# Altium integrated library Wuerth Elektronik THT Power Choke.IntLib: 76 symbols
Pins are listed as number, name and electrical type; pins without a type are passive.

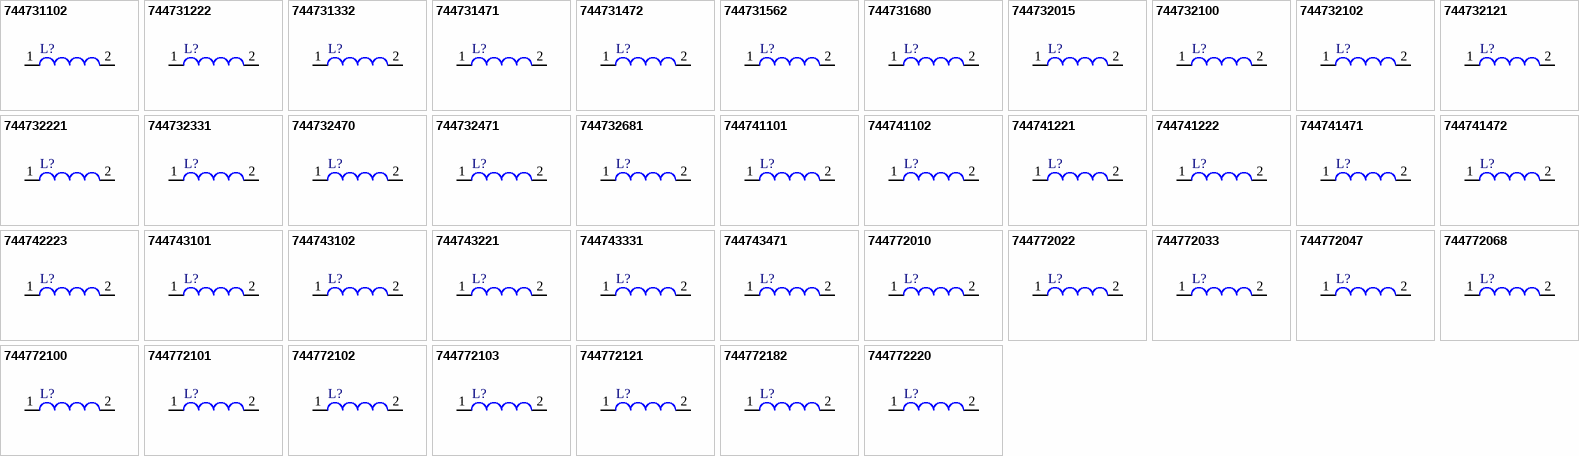
[diagram p0: symbols 744731102 to 744772220]

## 744731102
designator L?
Radial Leaded Wire Wound Inductor WE-TI, L = 1000 µH; Inductance: 1000 µH; DatasheetVersion: ver 3, Apr-2011; PackageVersion: 2008; PackageReference: WE-TI-LM-SHLD; PackageDescription: THT Inductor, 2-Leads, Body 7.8 x 7.8 mm; ComponentLink1Description: Manufacturer URL; ComponentLink1URL: http://www.we-online.com; ComponentLink2Description: Datasheet; ComponentLink2URL: http://www.we-online.de/katalog/media/pdf/744731102.pdf
footprint WE-TI-LM-SHLD (THT Inductor, 2-Leads, Body 7.8x7.8x7.5 mm)
pins: 1, 2

## 744731222
designator L?
Radial Leaded Wire Wound Inductor WE-TI, L = 2200 µH; Inductance: 2200 µH; DatasheetVersion: ver 1, Feb-2008; PackageVersion: 2008; PackageReference: WE-TI-LM-SHLD; PackageDescription: THT Inductor, 2-Leads, Body 7.8 x 7.8 mm; ComponentLink1Description: Manufacturer URL; ComponentLink1URL: http://www.we-online.com; ComponentLink2Description: Datasheet; ComponentLink2URL: http://www.we-online.de/katalog/media/pdf/744731222.pdf
footprint WE-TI-LM-SHLD (THT Inductor, 2-Leads, Body 7.8x7.8x7.5 mm)
pins: 1, 2

## 744731332
designator L?
Radial Leaded Wire Wound Inductor WE-TI, L = 3300 µH; Inductance: 3300 µH; DatasheetVersion: ver 1, Feb-2008; PackageVersion: 2008; PackageReference: WE-TI-LM-SHLD; PackageDescription: THT Inductor, 2-Leads, Body 7.8 x 7.8 mm; ComponentLink1Description: Manufacturer URL; ComponentLink1URL: http://www.we-online.com; ComponentLink2Description: Datasheet; ComponentLink2URL: http://www.we-online.de/katalog/media/pdf/744731332.pdf
footprint WE-TI-LM-SHLD (THT Inductor, 2-Leads, Body 7.8x7.8x7.5 mm)
pins: 1, 2

## 744731471
designator L?
Radial Leaded Wire Wound Inductor WE-TI, L = 470 µH; Inductance: 470 µH; DatasheetVersion: ver 3, Mar-2011; PackageVersion: 2008; PackageReference: WE-TI-LM-SHLD; PackageDescription: THT Inductor, 2-Leads, Body 7.8 x 7.8 mm; ComponentLink1Description: Manufacturer URL; ComponentLink1URL: http://www.we-online.com; ComponentLink2Description: Datasheet; ComponentLink2URL: http://www.we-online.de/katalog/media/pdf/744731471.pdf
footprint WE-TI-LM-SHLD (THT Inductor, 2-Leads, Body 7.8x7.8x7.5 mm)
pins: 1, 2

## 744731472
designator L?
Radial Leaded Wire Wound Inductor WE-TI, L = 4700 µH; Inductance: 4700 µH; DatasheetVersion: ver 3, Apr-2011; PackageVersion: 2008; PackageReference: WE-TI-LM-SHLD; PackageDescription: THT Inductor, 2-Leads, Body 7.8 x 7.8 mm; ComponentLink1Description: Manufacturer URL; ComponentLink1URL: http://www.we-online.com; ComponentLink2Description: Datasheet; ComponentLink2URL: http://www.we-online.de/katalog/media/pdf/744731472.pdf
footprint WE-TI-LM-SHLD (THT Inductor, 2-Leads, Body 7.8x7.8x7.5 mm)
pins: 1, 2

## 744731562
designator L?
Radial Leaded Wire Wound Inductor WE-TI, L = 5600 µH; Inductance: 5600 µH; DatasheetVersion: ver 3, Apr-2011; PackageVersion: 2008; PackageReference: WE-TI-LM-SHLD; PackageDescription: THT Inductor, 2-Leads, Body 7.8 x 7.8 mm; ComponentLink1Description: Manufacturer URL; ComponentLink1URL: http://www.we-online.com; ComponentLink2Description: Datasheet; ComponentLink2URL: http://www.we-online.de/katalog/media/pdf/744731562.pdf
footprint WE-TI-LM-SHLD (THT Inductor, 2-Leads, Body 7.8x7.8x7.5 mm)
pins: 1, 2

## 744731680
designator L?
Radial Leaded Wire Wound Inductor WE-TI, L = 68.0 µH; Inductance: 68.0 µH; DatasheetVersion: ver 3, Mar-2011; PackageVersion: 2008; PackageReference: WE-TI-LM-SHLD; PackageDescription: THT Inductor, 2-Leads, Body 7.8 x 7.8 mm; ComponentLink1Description: Manufacturer URL; ComponentLink1URL: http://www.we-online.com; ComponentLink2Description: Datasheet; ComponentLink2URL: http://www.we-online.de/katalog/media/pdf/744731680.pdf
footprint WE-TI-LM-SHLD (THT Inductor, 2-Leads, Body 7.8x7.8x7.5 mm)
pins: 1, 2

## 744732015
designator L?
Radial Leaded Wire Wound Inductor WE-TI, L = 1.50 µH; Inductance: 1.50 µH; DatasheetVersion: ver 4, Oct-2009; PackageVersion: 2010; PackageReference: WE-TI-LM-STBG; PackageDescription: THT Inductor, 2-Leads, Body 9.5 x 9.5 mm; ComponentLink1Description: Manufacturer URL; ComponentLink1URL: http://www.we-online.com; ComponentLink2Description: Datasheet; ComponentLink2URL: http://www.we-online.de/katalog/media/pdf/744732015.pdf
footprint WE-TI-LM-STBG (THT Inductor, 2-Leads, Body 9.5x9.5x8.0 mm)
pins: 1, 2

## 744732100
designator L?
Radial Leaded Wire Wound Inductor WE-TI, L = 10.0 µH; Inductance: 10.0 µH; DatasheetVersion: ver 4, Oct-2009; PackageVersion: 2010; PackageReference: WE-TI-LM-STBG; PackageDescription: THT Inductor, 2-Leads, Body 9.5 x 9.5 mm; ComponentLink1Description: Manufacturer URL; ComponentLink1URL: http://www.we-online.com; ComponentLink2Description: Datasheet; ComponentLink2URL: http://www.we-online.de/katalog/media/pdf/744732100.pdf
footprint WE-TI-LM-STBG (THT Inductor, 2-Leads, Body 9.5x9.5x8.0 mm)
pins: 1, 2

## 744732102
designator L?
Radial Leaded Wire Wound Inductor WE-TI, L = 1000 µH; Inductance: 1000 µH; DatasheetVersion: ver 1, Mar-2010; PackageVersion: 2010; PackageReference: WE-TI-LM-STBG; PackageDescription: THT Inductor, 2-Leads, Body 9.5 x 9.5 mm; ComponentLink1Description: Manufacturer URL; ComponentLink1URL: http://www.we-online.com; ComponentLink2Description: Datasheet; ComponentLink2URL: http://www.we-online.de/katalog/media/pdf/744732102.pdf
footprint WE-TI-LM-STBG (THT Inductor, 2-Leads, Body 9.5x9.5x8.0 mm)
pins: 1, 2

## 744732121
designator L?
Radial Leaded Wire Wound Inductor WE-TI, L = 120 µH; Inductance: 120 µH; DatasheetVersion: ver 1, Jan-2010; PackageVersion: 2010; PackageReference: WE-TI-LM-STBG; PackageDescription: THT Inductor, 2-Leads, Body 9.5 x 9.5 mm; ComponentLink1Description: Manufacturer URL; ComponentLink1URL: http://www.we-online.com; ComponentLink2Description: Datasheet; ComponentLink2URL: http://www.we-online.de/katalog/media/pdf/744732121.pdf
footprint WE-TI-LM-STBG (THT Inductor, 2-Leads, Body 9.5x9.5x8.0 mm)
pins: 1, 2

## 744732221
designator L?
Radial Leaded Wire Wound Inductor WE-TI, L = 220 µH; Inductance: 220 µH; DatasheetVersion: ver 1, Mar-2010; PackageVersion: 2010; PackageReference: WE-TI-LM-STBG; PackageDescription: THT Inductor, 2-Leads, Body 9.5 x 9.5 mm; ComponentLink1Description: Manufacturer URL; ComponentLink1URL: http://www.we-online.com; ComponentLink2Description: Datasheet; ComponentLink2URL: http://www.we-online.de/katalog/media/pdf/744732221.pdf
footprint WE-TI-LM-STBG (THT Inductor, 2-Leads, Body 9.5x9.5x8.0 mm)
pins: 1, 2

## 744732331
designator L?
Radial Leaded Wire Wound Inductor WE-TI, L = 330 µH; Inductance: 330 µH; DatasheetVersion: ver 3, Nov-2009; PackageVersion: 2010; PackageReference: WE-TI-LM-STBG; PackageDescription: THT Inductor, 2-Leads, Body 9.5 x 9.5 mm; ComponentLink1Description: Manufacturer URL; ComponentLink1URL: http://www.we-online.com; ComponentLink2Description: Datasheet; ComponentLink2URL: http://www.we-online.de/katalog/media/pdf/744732331.pdf
footprint WE-TI-LM-STBG (THT Inductor, 2-Leads, Body 9.5x9.5x8.0 mm)
pins: 1, 2

## 744732470
designator L?
Radial Leaded Wire Wound Inductor WE-TI, L = 47.0 µH; Inductance: 47.0 µH; DatasheetVersion: ver 2, Jan-2010; PackageVersion: 2010; PackageReference: WE-TI-LM-STBG; PackageDescription: THT Inductor, 2-Leads, Body 9.5 x 9.5 mm; ComponentLink1Description: Manufacturer URL; ComponentLink1URL: http://www.we-online.com; ComponentLink2Description: Datasheet; ComponentLink2URL: http://www.we-online.de/katalog/media/pdf/744732470.pdf
footprint WE-TI-LM-STBG (THT Inductor, 2-Leads, Body 9.5x9.5x8.0 mm)
pins: 1, 2

## 744732471
designator L?
Radial Leaded Wire Wound Inductor WE-TI, L = 470 µH; Inductance: 470 µH; DatasheetVersion: ver 1, Mar-2010; PackageVersion: 2010; PackageReference: WE-TI-LM-STBG; PackageDescription: THT Inductor, 2-Leads, Body 9.5 x 9.5 mm; ComponentLink1Description: Manufacturer URL; ComponentLink1URL: http://www.we-online.com; ComponentLink2Description: Datasheet; ComponentLink2URL: http://www.we-online.de/katalog/media/pdf/744732471.pdf
footprint WE-TI-LM-STBG (THT Inductor, 2-Leads, Body 9.5x9.5x8.0 mm)
pins: 1, 2

## 744732681
designator L?
Radial Leaded Wire Wound Inductor WE-TI, L = 680 µH; Inductance: 680 µH; DatasheetVersion: ver 1, Mar-2010; PackageVersion: 2010; PackageReference: WE-TI-LM-STBG; PackageDescription: THT Inductor, 2-Leads, Body 9.5 x 9.5 mm; ComponentLink1Description: Manufacturer URL; ComponentLink1URL: http://www.we-online.com; ComponentLink2Description: Datasheet; ComponentLink2URL: http://www.we-online.de/katalog/media/pdf/744732681.pdf
footprint WE-TI-LM-STBG (THT Inductor, 2-Leads, Body 9.5x9.5x8.0 mm)
pins: 1, 2

## 744741101
designator L?
Radial Leaded Wire Wound Inductor WE-TI, L = 100 µH; Inductance: 100 µH; DatasheetVersion: ver 2, Nov-2004; PackageVersion: 2004; PackageReference: WE-TI-LS; PackageDescription: THT Inductor, 2-Leads, Body 8.0 x 8.0 mm; ComponentLink1Description: Manufacturer URL; ComponentLink1URL: http://www.we-online.com; ComponentLink2Description: Datasheet; ComponentLink2URL: http://www.we-online.de/katalog/media/pdf/744741101.pdf
footprint WE-TI-LS (THT Inductor, 2-Leads, Body 8.0x8.0x6.0 mm)
pins: 1, 2

## 744741102
designator L?
Radial Leaded Wire Wound Inductor WE-TI, L = 1000 µH; Inductance: 1000 µH; DatasheetVersion: ver 2, Nov-2004; PackageVersion: 2004; PackageReference: WE-TI-LS; PackageDescription: THT Inductor, 2-Leads, Body 8.0 x 8.0 mm; ComponentLink1Description: Manufacturer URL; ComponentLink1URL: http://www.we-online.com; ComponentLink2Description: Datasheet; ComponentLink2URL: http://www.we-online.de/katalog/media/pdf/744741102.pdf
footprint WE-TI-LS (THT Inductor, 2-Leads, Body 8.0x8.0x6.0 mm)
pins: 1, 2

## 744741221
designator L?
Radial Leaded Wire Wound Inductor WE-TI, L = 220 µH; Inductance: 220 µH; DatasheetVersion: ver 2, Nov-2004; PackageVersion: 2004; PackageReference: WE-TI-LS; PackageDescription: THT Inductor, 2-Leads, Body 8.0 x 8.0 mm; ComponentLink1Description: Manufacturer URL; ComponentLink1URL: http://www.we-online.com; ComponentLink2Description: Datasheet; ComponentLink2URL: http://www.we-online.de/katalog/media/pdf/744741221.pdf
footprint WE-TI-LS (THT Inductor, 2-Leads, Body 8.0x8.0x6.0 mm)
pins: 1, 2

## 744741222
designator L?
Radial Leaded Wire Wound Inductor WE-TI, L = 2200 µH; Inductance: 2200 µH; DatasheetVersion: ver 2, Nov-2004; PackageVersion: 2004; PackageReference: WE-TI-LS; PackageDescription: THT Inductor, 2-Leads, Body 8.0 x 8.0 mm; ComponentLink1Description: Manufacturer URL; ComponentLink1URL: http://www.we-online.com; ComponentLink2Description: Datasheet; ComponentLink2URL: http://www.we-online.de/katalog/media/pdf/744741222.pdf
footprint WE-TI-LS (THT Inductor, 2-Leads, Body 8.0x8.0x6.0 mm)
pins: 1, 2

## 744741471
designator L?
Radial Leaded Wire Wound Inductor WE-TI, L = 470 µH; Inductance: 470 µH; DatasheetVersion: ver 2, Nov-2004; PackageVersion: 2004; PackageReference: WE-TI-LS; PackageDescription: THT Inductor, 2-Leads, Body 8.0 x 8.0 mm; ComponentLink1Description: Manufacturer URL; ComponentLink1URL: http://www.we-online.com; ComponentLink2Description: Datasheet; ComponentLink2URL: http://www.we-online.de/katalog/media/pdf/744741471.pdf
footprint WE-TI-LS (THT Inductor, 2-Leads, Body 8.0x8.0x6.0 mm)
pins: 1, 2

## 744741472
designator L?
Radial Leaded Wire Wound Inductor WE-TI, L = 4700 µH; Inductance: 4700 µH; DatasheetVersion: ver 2, Nov-2004; PackageVersion: 2004; PackageReference: WE-TI-LS; PackageDescription: THT Inductor, 2-Leads, Body 8.0 x 8.0 mm; ComponentLink1Description: Manufacturer URL; ComponentLink1URL: http://www.we-online.com; ComponentLink2Description: Datasheet; ComponentLink2URL: http://www.we-online.de/katalog/media/pdf/744741472.pdf
footprint WE-TI-LS (THT Inductor, 2-Leads, Body 8.0x8.0x6.0 mm)
pins: 1, 2

## 744742223
designator L?
Radial Leaded Wire Wound Inductor WE-TI, L = 22000 µH; DatasheetVersion: ver 5, Nov-2005; PackageVersion: 2006; PackageReference: WE-TI-L; PackageDescription: THT Inductor, 2-Leads, Body 7.8 x 7.8 mm; Inductance: 22000 µH; ComponentLink1Description: Manufacturer URL; ComponentLink1URL: http://www.we-online.com; ComponentLink2Description: Datasheet; ComponentLink2URL: http://www.we-online.de/katalog/media/pdf/744742223.pdf
footprint WE-TI-L (THT Inductor, 2-Leads, Body 7.8x7.8x10.0 mm)
pins: 1, 2

## 744743101
designator L?
Radial Leaded Wire Wound Inductor WE-TI, L = 100 µH; Inductance: 100 µH; DatasheetVersion: ver 3, Nov-2004; PackageVersion: 2004; PackageReference: WE-TI-LB; PackageDescription: THT Inductor, 2-Leads, Body 8.0 x 8.0 mm; ComponentLink1Description: Manufacturer URL; ComponentLink1URL: http://www.we-online.com; ComponentLink2Description: Datasheet; ComponentLink2URL: http://www.we-online.de/katalog/media/pdf/744743101.pdf
footprint WE-TI-LB (THT Inductor, 2-Leads, Body 8.0x8.0x12.5 mm)
pins: 1, 2

## 744743102
designator L?
Radial Leaded Wire Wound Inductor WE-TI, L = 1000 µH; Inductance: 1000 µH; DatasheetVersion: ver 3, Nov-2004; PackageVersion: 2004; PackageReference: WE-TI-LB; PackageDescription: THT Inductor, 2-Leads, Body 8.0 x 8.0 mm; ComponentLink1Description: Manufacturer URL; ComponentLink1URL: http://www.we-online.com; ComponentLink2Description: Datasheet; ComponentLink2URL: http://www.we-online.de/katalog/media/pdf/744743102.pdf
footprint WE-TI-LB (THT Inductor, 2-Leads, Body 8.0x8.0x12.5 mm)
pins: 1, 2

## 744743221
designator L?
Radial Leaded Wire Wound Inductor WE-TI, L = 220 µH; Inductance: 220 µH; DatasheetVersion: ver 3, Nov-2004; PackageVersion: 2004; PackageReference: WE-TI-LB; PackageDescription: THT Inductor, 2-Leads, Body 8.0 x 8.0 mm; ComponentLink1Description: Manufacturer URL; ComponentLink1URL: http://www.we-online.com; ComponentLink2Description: Datasheet; ComponentLink2URL: http://www.we-online.de/katalog/media/pdf/744743221.pdf
footprint WE-TI-LB (THT Inductor, 2-Leads, Body 8.0x8.0x12.5 mm)
pins: 1, 2

## 744743331
designator L?
Radial Leaded Wire Wound Inductor WE-TI, L = 330 µH; Inductance: 330 µH; DatasheetVersion: ver 3, Nov-2004; PackageVersion: 2004; PackageReference: WE-TI-LB; PackageDescription: THT Inductor, 2-Leads, Body 8.0 x 8.0 mm; ComponentLink1Description: Manufacturer URL; ComponentLink1URL: http://www.we-online.com; ComponentLink2Description: Datasheet; ComponentLink2URL: http://www.we-online.de/katalog/media/pdf/744743331.pdf
footprint WE-TI-LB (THT Inductor, 2-Leads, Body 8.0x8.0x12.5 mm)
pins: 1, 2

## 744743471
designator L?
Radial Leaded Wire Wound Inductor WE-TI, L = 470 µH; Inductance: 470 µH; DatasheetVersion: ver 3, Nov-2004; PackageVersion: 2004; PackageReference: WE-TI-LB; PackageDescription: THT Inductor, 2-Leads, Body 8.0 x 8.0 mm; ComponentLink1Description: Manufacturer URL; ComponentLink1URL: http://www.we-online.com; ComponentLink2Description: Datasheet; ComponentLink2URL: http://www.we-online.de/katalog/media/pdf/744743471.pdf
footprint WE-TI-LB (THT Inductor, 2-Leads, Body 8.0x8.0x12.5 mm)
pins: 1, 2

## 744772010
designator L?
Radial Leaded Wire Wound Inductor WE-TI, L = 1.00 µH; Inductance: 1.00 µH; DatasheetVersion: ver 2, Feb-2009; PackageVersion: 2006; PackageReference: WE-TI-L; PackageDescription: THT Inductor, 2-Leads, Body 7.8 x 7.8 mm; ComponentLink1Description: Manufacturer URL; ComponentLink1URL: http://www.we-online.com; ComponentLink2Description: Datasheet; ComponentLink2URL: http://www.we-online.de/katalog/media/pdf/744772010.pdf
footprint WE-TI-L (THT Inductor, 2-Leads, Body 7.8x7.8x10.0 mm)
pins: 1, 2

## 744772022
designator L?
Radial Leaded Wire Wound Inductor WE-TI, L = 2.20 µH; Inductance: 2.20 µH; DatasheetVersion: May-2006; PackageVersion: 2006; PackageReference: WE-TI-L; PackageDescription: THT Inductor, 2-Leads, Body 7.8 x 7.8 mm; ComponentLink1Description: Manufacturer URL; ComponentLink1URL: http://www.we-online.com; ComponentLink2Description: Datasheet; ComponentLink2URL: http://www.we-online.de/katalog/media/pdf/744772022.pdf
footprint WE-TI-L (THT Inductor, 2-Leads, Body 7.8x7.8x10.0 mm)
pins: 1, 2

## 744772033
designator L?
Radial Leaded Wire Wound Inductor WE-TI, L = 3.30 µH; Inductance: 3.30 µH; DatasheetVersion: May-2006; PackageVersion: 2006; PackageReference: WE-TI-L; PackageDescription: THT Inductor, 2-Leads, Body 7.8 x 7.8 mm; ComponentLink1Description: Manufacturer URL; ComponentLink1URL: http://www.we-online.com; ComponentLink2Description: Datasheet; ComponentLink2URL: http://www.we-online.de/katalog/media/pdf/744772033.pdf
footprint WE-TI-L (THT Inductor, 2-Leads, Body 7.8x7.8x10.0 mm)
pins: 1, 2

## 744772047
designator L?
Radial Leaded Wire Wound Inductor WE-TI, L = 4.70 µH; Inductance: 4.70 µH; DatasheetVersion: May-2006; PackageVersion: 2006; PackageReference: WE-TI-L; PackageDescription: THT Inductor, 2-Leads, Body 7.8 x 7.8 mm; ComponentLink1Description: Manufacturer URL; ComponentLink1URL: http://www.we-online.com; ComponentLink2Description: Datasheet; ComponentLink2URL: http://www.we-online.de/katalog/media/pdf/744772047.pdf
footprint WE-TI-L (THT Inductor, 2-Leads, Body 7.8x7.8x10.0 mm)
pins: 1, 2

## 744772068
designator L?
Radial Leaded Wire Wound Inductor WE-TI, L = 6.80 µH; Inductance: 6.80 µH; DatasheetVersion: May-2006; PackageVersion: 2006; PackageReference: WE-TI-L; PackageDescription: THT Inductor, 2-Leads, Body 7.8 x 7.8 mm; ComponentLink1Description: Manufacturer URL; ComponentLink1URL: http://www.we-online.com; ComponentLink2Description: Datasheet; ComponentLink2URL: http://www.we-online.de/katalog/media/pdf/744772068.pdf
footprint WE-TI-L (THT Inductor, 2-Leads, Body 7.8x7.8x10.0 mm)
pins: 1, 2

## 744772100
designator L?
Radial Leaded Wire Wound Inductor WE-TI, L = 10.0 µH; Inductance: 10.0 µH; DatasheetVersion: May-2006; PackageVersion: 2006; PackageReference: WE-TI-L; PackageDescription: THT Inductor, 2-Leads, Body 7.8 x 7.8 mm; ComponentLink1Description: Manufacturer URL; ComponentLink1URL: http://www.we-online.com; ComponentLink2Description: Datasheet; ComponentLink2URL: http://www.we-online.de/katalog/media/pdf/744772100.pdf
footprint WE-TI-L (THT Inductor, 2-Leads, Body 7.8x7.8x10.0 mm)
pins: 1, 2

## 744772101
designator L?
Radial Leaded Wire Wound Inductor WE-TI, L = 100 µH; Inductance: 100 µH; DatasheetVersion: May-2006; PackageVersion: 2006; PackageReference: WE-TI-L; PackageDescription: THT Inductor, 2-Leads, Body 7.8 x 7.8 mm; ComponentLink1Description: Manufacturer URL; ComponentLink1URL: http://www.we-online.com; ComponentLink2Description: Datasheet; ComponentLink2URL: http://www.we-online.de/katalog/media/pdf/744772101.pdf
footprint WE-TI-L (THT Inductor, 2-Leads, Body 7.8x7.8x10.0 mm)
pins: 1, 2

## 744772102
designator L?
Radial Leaded Wire Wound Inductor WE-TI, L = 1000 µH; Inductance: 1000 µH; DatasheetVersion: May-2006; PackageVersion: 2006; PackageReference: WE-TI-L; PackageDescription: THT Inductor, 2-Leads, Body 7.8 x 7.8 mm; ComponentLink1Description: Manufacturer URL; ComponentLink1URL: http://www.we-online.com; ComponentLink2Description: Datasheet; ComponentLink2URL: http://www.we-online.de/katalog/media/pdf/744772102.pdf
footprint WE-TI-L (THT Inductor, 2-Leads, Body 7.8x7.8x10.0 mm)
pins: 1, 2

## 744772103
designator L?
Radial Leaded Wire Wound Inductor WE-TI, L = 10000 µH; DatasheetVersion: May-2006; PackageVersion: 2006; PackageReference: WE-TI-L; PackageDescription: THT Inductor, 2-Leads, Body 7.8 x 7.8 mm; Inductance: 10000 µH; ComponentLink1Description: Manufacturer URL; ComponentLink1URL: http://www.we-online.com; ComponentLink2Description: Datasheet; ComponentLink2URL: http://www.we-online.de/katalog/media/pdf/744772103.pdf
footprint WE-TI-L (THT Inductor, 2-Leads, Body 7.8x7.8x10.0 mm)
pins: 1, 2

## 744772121
designator L?
Radial Leaded Wire Wound Inductor WE-TI, L = 120 µH; Inductance: 120 µH; DatasheetVersion: May-2006; PackageVersion: 2006; PackageReference: WE-TI-L; PackageDescription: THT Inductor, 2-Leads, Body 7.8 x 7.8 mm; ComponentLink1Description: Manufacturer URL; ComponentLink1URL: http://www.we-online.com; ComponentLink2Description: Datasheet; ComponentLink2URL: http://www.we-online.de/katalog/media/pdf/744772121.pdf
footprint WE-TI-L (THT Inductor, 2-Leads, Body 7.8x7.8x10.0 mm)
pins: 1, 2

## 744772182
designator L?
Radial Leaded Wire Wound Inductor WE-TI, L = 1800 µH; Inductance: 1800 µH; DatasheetVersion: May-2006; PackageVersion: 2006; PackageReference: WE-TI-L; PackageDescription: THT Inductor, 2-Leads, Body 7.8 x 7.8 mm; ComponentLink1Description: Manufacturer URL; ComponentLink1URL: http://www.we-online.com; ComponentLink2Description: Datasheet; ComponentLink2URL: http://www.we-online.de/katalog/media/pdf/744772182.pdf
footprint WE-TI-L (THT Inductor, 2-Leads, Body 7.8x7.8x10.0 mm)
pins: 1, 2

## 744772220
designator L?
Radial Leaded Wire Wound Inductor WE-TI, L = 22.0 µH; Inductance: 22.0 µH; DatasheetVersion: ver 2, Dec-2004; PackageVersion: 2006; PackageReference: WE-TI-L; PackageDescription: THT Inductor, 2-Leads, Body 7.8 x 7.8 mm; ComponentLink1Description: Manufacturer URL; ComponentLink1URL: http://www.we-online.com; ComponentLink2Description: Datasheet; ComponentLink2URL: http://www.we-online.de/katalog/media/pdf/744772220.pdf
footprint WE-TI-L (THT Inductor, 2-Leads, Body 7.8x7.8x10.0 mm)
pins: 1, 2

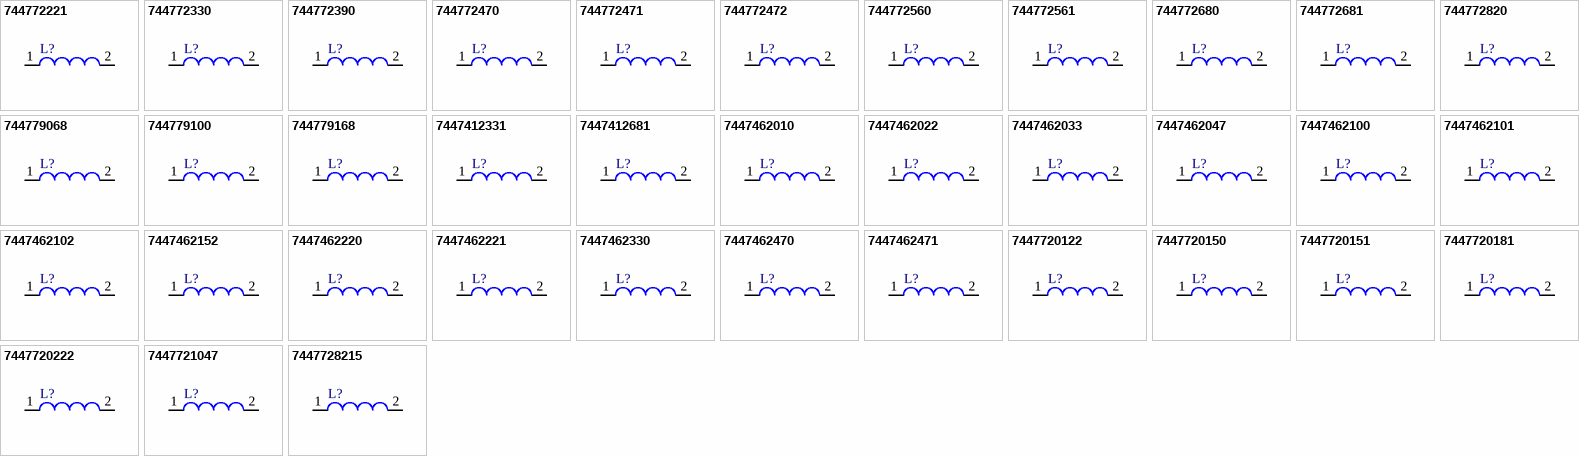
[diagram p1: symbols 744772221 to 7447728215]

## 744772221
designator L?
Radial Leaded Wire Wound Inductor WE-TI, L = 220 µH; Inductance: 220 µH; DatasheetVersion: ver 9, Sep-2010; PackageVersion: 2006; PackageReference: WE-TI-L; PackageDescription: THT Inductor, 2-Leads, Body 7.8 x 7.8 mm; ComponentLink1Description: Manufacturer URL; ComponentLink1URL: http://www.we-online.com; ComponentLink2Description: Datasheet; ComponentLink2URL: http://www.we-online.de/katalog/media/pdf/744772221.pdf
footprint WE-TI-L (THT Inductor, 2-Leads, Body 7.8x7.8x10.0 mm)
pins: 1, 2

## 744772330
designator L?
Radial Leaded Wire Wound Inductor WE-TI, L = 33.0 µH; Inductance: 33.0 µH; DatasheetVersion: May-2006; PackageVersion: 2006; PackageReference: WE-TI-L; PackageDescription: THT Inductor, 2-Leads, Body 7.8 x 7.8 mm; ComponentLink1Description: Manufacturer URL; ComponentLink1URL: http://www.we-online.com; ComponentLink2Description: Datasheet; ComponentLink2URL: http://www.we-online.de/katalog/media/pdf/744772330.pdf
footprint WE-TI-L (THT Inductor, 2-Leads, Body 7.8x7.8x10.0 mm)
pins: 1, 2

## 744772390
designator L?
Radial Leaded Wire Wound Inductor WE-TI, L = 39.0 µH; Inductance: 39.0 µH; DatasheetVersion: ver 8, Oct-2009; PackageVersion: 2006; PackageReference: WE-TI-L; PackageDescription: THT Inductor, 2-Leads, Body 7.8 x 7.8 mm; ComponentLink1Description: Manufacturer URL; ComponentLink1URL: http://www.we-online.com; ComponentLink2Description: Datasheet; ComponentLink2URL: http://www.we-online.de/katalog/media/pdf/744772390.pdf
footprint WE-TI-L (THT Inductor, 2-Leads, Body 7.8x7.8x10.0 mm)
pins: 1, 2

## 744772470
designator L?
Radial Leaded Wire Wound Inductor WE-TI, L = 47.0 µH; Inductance: 47.0 µH; DatasheetVersion: ver 9, Sep-2010; PackageVersion: 2006; PackageReference: WE-TI-L; PackageDescription: THT Inductor, 2-Leads, Body 7.8 x 7.8 mm; ComponentLink1Description: Manufacturer URL; ComponentLink1URL: http://www.we-online.com; ComponentLink2Description: Datasheet; ComponentLink2URL: http://www.we-online.de/katalog/media/pdf/744772470.pdf
footprint WE-TI-L (THT Inductor, 2-Leads, Body 7.8x7.8x10.0 mm)
pins: 1, 2

## 744772471
designator L?
Radial Leaded Wire Wound Inductor WE-TI, L = 470 µH; Inductance: 470 µH; DatasheetVersion: May-2006; PackageVersion: 2006; PackageReference: WE-TI-L; PackageDescription: THT Inductor, 2-Leads, Body 7.8 x 7.8 mm; ComponentLink1Description: Manufacturer URL; ComponentLink1URL: http://www.we-online.com; ComponentLink2Description: Datasheet; ComponentLink2URL: http://www.we-online.de/katalog/media/pdf/744772471.pdf
footprint WE-TI-L (THT Inductor, 2-Leads, Body 7.8x7.8x10.0 mm)
pins: 1, 2

## 744772472
designator L?
Radial Leaded Wire Wound Inductor WE-TI, L = 4700 µH; Inductance: 4700 µH; DatasheetVersion: ver 9, Feb-2011; PackageVersion: 2006; PackageReference: WE-TI-L; PackageDescription: THT Inductor, 2-Leads, Body 7.8 x 7.8 mm; ComponentLink1Description: Manufacturer URL; ComponentLink1URL: http://www.we-online.com; ComponentLink2Description: Datasheet; ComponentLink2URL: http://www.we-online.de/katalog/media/pdf/744772472.pdf
footprint WE-TI-L (THT Inductor, 2-Leads, Body 7.8x7.8x10.0 mm)
pins: 1, 2

## 744772560
designator L?
Radial Leaded Wire Wound Inductor WE-TI, L = 56.0 µH; Inductance: 56.0 µH; DatasheetVersion: May-2006; PackageVersion: 2006; PackageReference: WE-TI-L; PackageDescription: THT Inductor, 2-Leads, Body 7.8 x 7.8 mm; ComponentLink1Description: Manufacturer URL; ComponentLink1URL: http://www.we-online.com; ComponentLink2Description: Datasheet; ComponentLink2URL: http://www.we-online.de/katalog/media/pdf/744772560.pdf
footprint WE-TI-L (THT Inductor, 2-Leads, Body 7.8x7.8x10.0 mm)
pins: 1, 2

## 744772561
designator L?
Radial Leaded Wire Wound Inductor WE-TI, L = 560 µH; Inductance: 560 µH; DatasheetVersion: ver 2, Jun-2006; PackageVersion: 2006; PackageReference: WE-TI-L; PackageDescription: THT Inductor, 2-Leads, Body 7.8 x 7.8 mm; ComponentLink1Description: Manufacturer URL; ComponentLink1URL: http://www.we-online.com; ComponentLink2Description: Datasheet; ComponentLink2URL: http://www.we-online.de/katalog/media/pdf/744772561.pdf
footprint WE-TI-L (THT Inductor, 2-Leads, Body 7.8x7.8x10.0 mm)
pins: 1, 2

## 744772680
designator L?
Radial Leaded Wire Wound Inductor WE-TI, L = 68.0 µH; Inductance: 68.0 µH; DatasheetVersion: May-2006; PackageVersion: 2006; PackageReference: WE-TI-L; PackageDescription: THT Inductor, 2-Leads, Body 7.8 x 7.8 mm; ComponentLink1Description: Manufacturer URL; ComponentLink1URL: http://www.we-online.com; ComponentLink2Description: Datasheet; ComponentLink2URL: http://www.we-online.de/katalog/media/pdf/744772680.pdf
footprint WE-TI-L (THT Inductor, 2-Leads, Body 7.8x7.8x10.0 mm)
pins: 1, 2

## 744772681
designator L?
Radial Leaded Wire Wound Inductor WE-TI, L = 680 µH; Inductance: 680 µH; DatasheetVersion: May-2006; PackageVersion: 2006; PackageReference: WE-TI-L; PackageDescription: THT Inductor, 2-Leads, Body 7.8 x 7.8 mm; ComponentLink1Description: Manufacturer URL; ComponentLink1URL: http://www.we-online.com; ComponentLink2Description: Datasheet; ComponentLink2URL: http://www.we-online.de/katalog/media/pdf/744772681.pdf
footprint WE-TI-L (THT Inductor, 2-Leads, Body 7.8x7.8x10.0 mm)
pins: 1, 2

## 744772820
designator L?
Radial Leaded Wire Wound Inductor WE-TI, L = 82.0 µH; Inductance: 82.0 µH; DatasheetVersion: May-2006; PackageVersion: 2006; PackageReference: WE-TI-L; PackageDescription: THT Inductor, 2-Leads, Body 7.8 x 7.8 mm; ComponentLink1Description: Manufacturer URL; ComponentLink1URL: http://www.we-online.com; ComponentLink2Description: Datasheet; ComponentLink2URL: http://www.we-online.de/katalog/media/pdf/744772820.pdf
footprint WE-TI-L (THT Inductor, 2-Leads, Body 7.8x7.8x10.0 mm)
pins: 1, 2

## 744779068
designator L?
Radial Leaded Wire Wound Inductor WE-TI, L = 6.80 µH; Inductance: 6.80 µH; DatasheetVersion: Jul-2006; PackageVersion: 2006; PackageReference: WE-TI-M; PackageDescription: THT Inductor, 2-Leads, Body 6.0 x 6.0 mm; ComponentLink1Description: Manufacturer URL; ComponentLink1URL: http://www.we-online.com; ComponentLink2Description: Datasheet; ComponentLink2URL: http://www.we-online.de/katalog/media/pdf/744779068.pdf
footprint WE-TI-M (THT Inductor, 2-Leads, Body 6.0x6.0x6.5 mm)
pins: 1, 2

## 744779100
designator L?
Radial Leaded Wire Wound Inductor WE-TI, L = 10.0 µH; Inductance: 10.0 µH; DatasheetVersion: Jul-2006; PackageVersion: 2006; PackageReference: WE-TI-M; PackageDescription: THT Inductor, 2-Leads, Body 6.0 x 6.0 mm; ComponentLink1Description: Manufacturer URL; ComponentLink1URL: http://www.we-online.com; ComponentLink2Description: Datasheet; ComponentLink2URL: http://www.we-online.de/katalog/media/pdf/744779100.pdf
footprint WE-TI-M (THT Inductor, 2-Leads, Body 6.0x6.0x6.5 mm)
pins: 1, 2

## 744779168
designator L?
Radial Leaded Wire Wound Inductor WE-TI, L = 68.0 µH; Inductance: 68.0 µH; DatasheetVersion: ver 1, Apr-2007; PackageVersion: 2006; PackageReference: WE-TI-M; PackageDescription: THT Inductor, 2-Leads, Body 6.0 x 6.0 mm; ComponentLink1Description: Manufacturer URL; ComponentLink1URL: http://www.we-online.com; ComponentLink2Description: Datasheet; ComponentLink2URL: http://www.we-online.de/katalog/media/pdf/744779168.pdf
footprint WE-TI-M (THT Inductor, 2-Leads, Body 6.0x6.0x6.5 mm)
pins: 1, 2

## 7447412331
designator L?
Radial Leaded Wire Wound Inductor WE-TI, L = 330 µH; Inductance: 330 µH; DatasheetVersion: ver 2, Nov-2008; PackageVersion: 2004; PackageReference: WE-TI-LS; PackageDescription: THT Inductor, 2-Leads, Body 8.0 x 8.0 mm; ComponentLink1Description: Manufacturer URL; ComponentLink1URL: http://www.we-online.com; ComponentLink2Description: Datasheet; ComponentLink2URL: http://www.we-online.de/katalog/media/pdf/7447412331.pdf
footprint WE-TI-LS (THT Inductor, 2-Leads, Body 8.0x8.0x6.0 mm)
pins: 1, 2

## 7447412681
designator L?
Radial Leaded Wire Wound Inductor WE-TI, L = 680 µH; Inductance: 680 µH; DatasheetVersion: ver 2, Nov-2008; PackageVersion: 2004; PackageReference: WE-TI-LS; PackageDescription: THT Inductor, 2-Leads, Body 8.0 x 8.0 mm; ComponentLink1Description: Manufacturer URL; ComponentLink1URL: http://www.we-online.com; ComponentLink2Description: Datasheet; ComponentLink2URL: http://www.we-online.de/katalog/media/pdf/7447412681.pdf
footprint WE-TI-LS (THT Inductor, 2-Leads, Body 8.0x8.0x6.0 mm)
pins: 1, 2

## 7447462010
designator L?
Radial Leaded Wire Wound Inductor WE-TI, L = 1.00 µH; Inductance: 1.00 µH; DatasheetVersion: ver 2, Jan-2011; PackageVersion: 2011; PackageReference: WE-TI-XS; PackageDescription: THT Inductor, 2-Leads, Body 6.0 x 6.0 mm; ComponentLink1Description: Manufacturer URL; ComponentLink1URL: http://www.we-online.com; ComponentLink2Description: Datasheet; ComponentLink2URL: http://www.we-online.de/katalog/media/pdf/7447462010.pdf
footprint WE-TI-XS (THT Inductor, 2-Leads, Body 6.0x6.0x8.5 mm)
pins: 1, 2

## 7447462022
designator L?
Radial Leaded Wire Wound Inductor WE-TI, L = 2.20 µH; Inductance: 2.20 µH; DatasheetVersion: ver 2, Jan-2011; PackageVersion: 2011; PackageReference: WE-TI-XS; PackageDescription: THT Inductor, 2-Leads, Body 6.0 x 6.0 mm; ComponentLink1Description: Manufacturer URL; ComponentLink1URL: http://www.we-online.com; ComponentLink2Description: Datasheet; ComponentLink2URL: http://www.we-online.de/katalog/media/pdf/7447462022.pdf
footprint WE-TI-XS (THT Inductor, 2-Leads, Body 6.0x6.0x8.5 mm)
pins: 1, 2

## 7447462033
designator L?
Radial Leaded Wire Wound Inductor WE-TI, L = 3.30 µH; Inductance: 3.30 µH; DatasheetVersion: ver 2, Jan-2011; PackageVersion: 2011; PackageReference: WE-TI-XS; PackageDescription: THT Inductor, 2-Leads, Body 6.0 x 6.0 mm; ComponentLink1Description: Manufacturer URL; ComponentLink1URL: http://www.we-online.com; ComponentLink2Description: Datasheet; ComponentLink2URL: http://www.we-online.de/katalog/media/pdf/7447462033.pdf
footprint WE-TI-XS (THT Inductor, 2-Leads, Body 6.0x6.0x8.5 mm)
pins: 1, 2

## 7447462047
designator L?
Radial Leaded Wire Wound Inductor WE-TI, L = 4.70 µH; Inductance: 4.70 µH; DatasheetVersion: ver 2, Jan-2011; PackageVersion: 2011; PackageReference: WE-TI-XS; PackageDescription: THT Inductor, 2-Leads, Body 6.0 x 6.0 mm; ComponentLink1Description: Manufacturer URL; ComponentLink1URL: http://www.we-online.com; ComponentLink2Description: Datasheet; ComponentLink2URL: http://www.we-online.de/katalog/media/pdf/7447462047.pdf
footprint WE-TI-XS (THT Inductor, 2-Leads, Body 6.0x6.0x8.5 mm)
pins: 1, 2

## 7447462100
designator L?
Radial Leaded Wire Wound Inductor WE-TI, L = 10.0 µH; Inductance: 10.0 µH; DatasheetVersion: ver 2, Jan-2011; PackageVersion: 2011; PackageReference: WE-TI-XS; PackageDescription: THT Inductor, 2-Leads, Body 6.0 x 6.0 mm; ComponentLink1Description: Manufacturer URL; ComponentLink1URL: http://www.we-online.com; ComponentLink2Description: Datasheet; ComponentLink2URL: http://www.we-online.de/katalog/media/pdf/7447462100.pdf
footprint WE-TI-XS (THT Inductor, 2-Leads, Body 6.0x6.0x8.5 mm)
pins: 1, 2

## 7447462101
designator L?
Radial Leaded Wire Wound Inductor WE-TI, L = 100 µH; Inductance: 100 µH; DatasheetVersion: ver 2, Jan-2011; PackageVersion: 2011; PackageReference: WE-TI-XS; PackageDescription: THT Inductor, 2-Leads, Body 6.0 x 6.0 mm; ComponentLink1Description: Manufacturer URL; ComponentLink1URL: http://www.we-online.com; ComponentLink2Description: Datasheet; ComponentLink2URL: http://www.we-online.de/katalog/media/pdf/7447462101.pdf
footprint WE-TI-XS (THT Inductor, 2-Leads, Body 6.0x6.0x8.5 mm)
pins: 1, 2

## 7447462102
designator L?
Radial Leaded Wire Wound Inductor WE-TI, L = 1000 µH; Inductance: 1000 µH; DatasheetVersion: ver 2, Jan-2011; PackageVersion: 2011; PackageReference: WE-TI-XS; PackageDescription: THT Inductor, 2-Leads, Body 6.0 x 6.0 mm; ComponentLink1Description: Manufacturer URL; ComponentLink1URL: http://www.we-online.com; ComponentLink2Description: Datasheet; ComponentLink2URL: http://www.we-online.de/katalog/media/pdf/7447462102.pdf
footprint WE-TI-XS (THT Inductor, 2-Leads, Body 6.0x6.0x8.5 mm)
pins: 1, 2

## 7447462152
designator L?
Radial Leaded Wire Wound Inductor WE-TI, L = 1500 µH; Inductance: 1500 µH; DatasheetVersion: ver 2, Jan-2011; PackageVersion: 2011; PackageReference: WE-TI-XS; PackageDescription: THT Inductor, 2-Leads, Body 6.0 x 6.0 mm; ComponentLink1Description: Manufacturer URL; ComponentLink1URL: http://www.we-online.com; ComponentLink2Description: Datasheet; ComponentLink2URL: http://www.we-online.de/katalog/media/pdf/7447462152.pdf
footprint WE-TI-XS (THT Inductor, 2-Leads, Body 6.0x6.0x8.5 mm)
pins: 1, 2

## 7447462220
designator L?
Radial Leaded Wire Wound Inductor WE-TI, L = 22.0 µH; Inductance: 22.0 µH; DatasheetVersion: ver 2, Jan-2011; PackageVersion: 2011; PackageReference: WE-TI-XS; PackageDescription: THT Inductor, 2-Leads, Body 6.0 x 6.0 mm; ComponentLink1Description: Manufacturer URL; ComponentLink1URL: http://www.we-online.com; ComponentLink2Description: Datasheet; ComponentLink2URL: http://www.we-online.de/katalog/media/pdf/7447462220.pdf
footprint WE-TI-XS (THT Inductor, 2-Leads, Body 6.0x6.0x8.5 mm)
pins: 1, 2

## 7447462221
designator L?
Radial Leaded Wire Wound Inductor WE-TI, L = 220 µH; Inductance: 220 µH; DatasheetVersion: ver 2, Jan-2011; PackageVersion: 2011; PackageReference: WE-TI-XS; PackageDescription: THT Inductor, 2-Leads, Body 6.0 x 6.0 mm; ComponentLink1Description: Manufacturer URL; ComponentLink1URL: http://www.we-online.com; ComponentLink2Description: Datasheet; ComponentLink2URL: http://www.we-online.de/katalog/media/pdf/7447462221.pdf
footprint WE-TI-XS (THT Inductor, 2-Leads, Body 6.0x6.0x8.5 mm)
pins: 1, 2

## 7447462330
designator L?
Radial Leaded Wire Wound Inductor WE-TI, L = 33.0 µH; Inductance: 33.0 µH; DatasheetVersion: ver 2, Jan-2011; PackageVersion: 2011; PackageReference: WE-TI-XS; PackageDescription: THT Inductor, 2-Leads, Body 6.0 x 6.0 mm; ComponentLink1Description: Manufacturer URL; ComponentLink1URL: http://www.we-online.com; ComponentLink2Description: Datasheet; ComponentLink2URL: http://www.we-online.de/katalog/media/pdf/7447462330.pdf
footprint WE-TI-XS (THT Inductor, 2-Leads, Body 6.0x6.0x8.5 mm)
pins: 1, 2

## 7447462470
designator L?
Radial Leaded Wire Wound Inductor WE-TI, L = 47.0 µH; Inductance: 47.0 µH; DatasheetVersion: ver 2, Jan-2011; PackageVersion: 2011; PackageReference: WE-TI-XS; PackageDescription: THT Inductor, 2-Leads, Body 6.0 x 6.0 mm; ComponentLink1Description: Manufacturer URL; ComponentLink1URL: http://www.we-online.com; ComponentLink2Description: Datasheet; ComponentLink2URL: http://www.we-online.de/katalog/media/pdf/7447462470.pdf
footprint WE-TI-XS (THT Inductor, 2-Leads, Body 6.0x6.0x8.5 mm)
pins: 1, 2

## 7447462471
designator L?
Radial Leaded Wire Wound Inductor WE-TI, L = 470 µH; Inductance: 470 µH; DatasheetVersion: ver 2, Jan-2011; PackageVersion: 2011; PackageReference: WE-TI-XS; PackageDescription: THT Inductor, 2-Leads, Body 6.0 x 6.0 mm; ComponentLink1Description: Manufacturer URL; ComponentLink1URL: http://www.we-online.com; ComponentLink2Description: Datasheet; ComponentLink2URL: http://www.we-online.de/katalog/media/pdf/7447462471.pdf
footprint WE-TI-XS (THT Inductor, 2-Leads, Body 6.0x6.0x8.5 mm)
pins: 1, 2

## 7447720122
designator L?
Radial Leaded Wire Wound Inductor WE-TI, L = 1200 µH; Inductance: 1200 µH; DatasheetVersion: ver 1, Oct-2009; PackageVersion: 2006; PackageReference: WE-TI-L; PackageDescription: THT Inductor, 2-Leads, Body 7.8 x 7.8 mm; ComponentLink1Description: Manufacturer URL; ComponentLink1URL: http://www.we-online.com; ComponentLink2Description: Datasheet; ComponentLink2URL: http://www.we-online.de/katalog/media/pdf/7447720122.pdf
footprint WE-TI-L (THT Inductor, 2-Leads, Body 7.8x7.8x10.0 mm)
pins: 1, 2

## 7447720150
designator L?
Radial Leaded Wire Wound Inductor WE-TI, L = 15.0 µH; Inductance: 15.0 µH; DatasheetVersion: ver 1, Jul-2008; PackageVersion: 2006; PackageReference: WE-TI-L; PackageDescription: THT Inductor, 2-Leads, Body 7.8 x 7.8 mm; ComponentLink1Description: Manufacturer URL; ComponentLink1URL: http://www.we-online.com; ComponentLink2Description: Datasheet; ComponentLink2URL: http://www.we-online.de/katalog/media/pdf/7447720150.pdf
footprint WE-TI-L (THT Inductor, 2-Leads, Body 7.8x7.8x10.0 mm)
pins: 1, 2

## 7447720151
designator L?
Radial Leaded Wire Wound Inductor WE-TI, L = 150 µH; Inductance: 150 µH; DatasheetVersion: ver 1, Feb-2009; PackageVersion: 2006; PackageReference: WE-TI-L; PackageDescription: THT Inductor, 2-Leads, Body 7.8 x 7.8 mm; ComponentLink1Description: Manufacturer URL; ComponentLink1URL: http://www.we-online.com; ComponentLink2Description: Datasheet; ComponentLink2URL: http://www.we-online.de/katalog/media/pdf/7447720151.pdf
footprint WE-TI-L (THT Inductor, 2-Leads, Body 7.8x7.8x10.0 mm)
pins: 1, 2

## 7447720181
designator L?
Radial Leaded Wire Wound Inductor WE-TI, L = 180 µH; Inductance: 180 µH; DatasheetVersion: ver 8, Feb-2008; PackageVersion: 2006; PackageReference: WE-TI-L; PackageDescription: THT Inductor, 2-Leads, Body 7.8 x 7.8 mm; ComponentLink1Description: Manufacturer URL; ComponentLink1URL: http://www.we-online.com; ComponentLink2Description: Datasheet; ComponentLink2URL: http://www.we-online.de/katalog/media/pdf/7447720181.pdf
footprint WE-TI-L (THT Inductor, 2-Leads, Body 7.8x7.8x10.0 mm)
pins: 1, 2

## 7447720222
designator L?
Radial Leaded Wire Wound Inductor WE-TI, L = 2200 µH; Inductance: 2200 µH; DatasheetVersion: ver 1, Oct-2009; PackageVersion: 2006; PackageReference: WE-TI-L; PackageDescription: THT Inductor, 2-Leads, Body 7.8 x 7.8 mm; ComponentLink1Description: Manufacturer URL; ComponentLink1URL: http://www.we-online.com; ComponentLink2Description: Datasheet; ComponentLink2URL: http://www.we-online.de/katalog/media/pdf/7447720222.pdf
footprint WE-TI-L (THT Inductor, 2-Leads, Body 7.8x7.8x10.0 mm)
pins: 1, 2

## 7447721047
designator L?
Radial Leaded Wire Wound Inductor WE-TI, L = 4700 µH; Inductance: 4700 µH; DatasheetVersion: ver 3, Feb-2008; PackageVersion: 2008; PackageReference: WE-TI-LM; PackageDescription: THT Inductor, 2-Leads, Body 7.8 x 7.8 mm; ComponentLink1Description: Manufacturer URL; ComponentLink1URL: http://www.we-online.com; ComponentLink2Description: Datasheet; ComponentLink2URL: http://www.we-online.de/katalog/media/pdf/7447721047.pdf
footprint WE-TI-LM (THT Inductor, 2-Leads, Body 7.8x7.8x7.5 mm)
pins: 1, 2

## 7447728215
designator L?
Radial Leaded Wire Wound Inductor WE-TI, L = 820 µH; Inductance: 820 µH; DatasheetVersion: May-2006; PackageVersion: 2006; PackageReference: WE-TI-L; PackageDescription: THT Inductor, 2-Leads, Body 7.8 x 7.8 mm; ComponentLink1Description: Manufacturer URL; ComponentLink1URL: http://www.we-online.com; ComponentLink2Description: Datasheet; ComponentLink2URL: http://www.we-online.de/katalog/media/pdf/7447728215.pdf
footprint WE-TI-L (THT Inductor, 2-Leads, Body 7.8x7.8x10.0 mm)
pins: 1, 2